# Altium footprint library TPS25990ARQPR.PcbLib: 1 footprints
Each footprint in its own frame and in the unit in brackets; x right, y up, seen from the top. Pads: shape width x height; smd on the part's side, far side on the other; paste and mask are expansions set on the pad; w line width, h text height; cw(c..) or ccw(c..) is an arc to the next point about the centre after c.
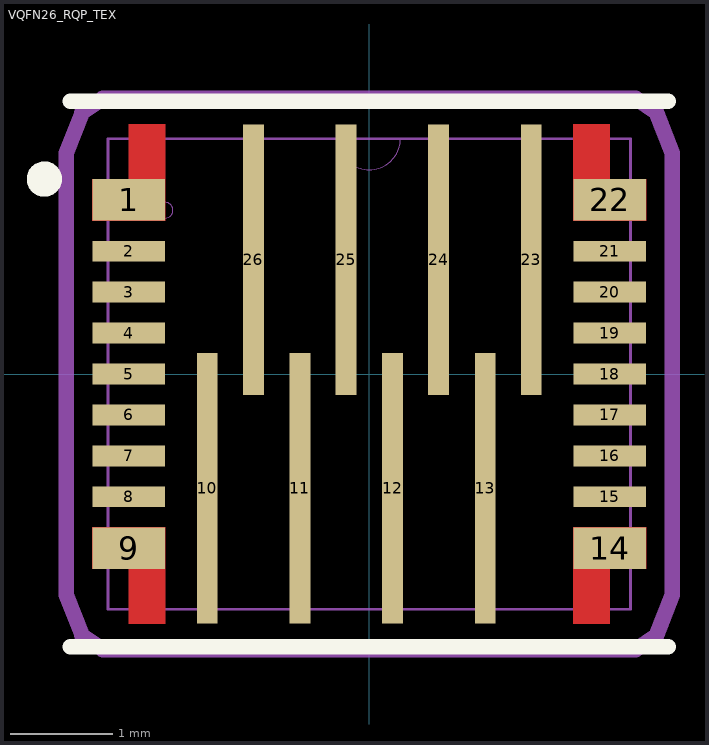
[diagram p0: the footprint, top view; thin cyan lines are the x and y axes]

## VQFN26_RQP_TEX [mil]
pads (26):
  rect 28x16 smd paste-14 mask-14: 1(-92.52,67) 9(-92.52,-67) 14(92.52,-67) 22(92.52,67)
  rect 28x8 smd paste-4 mask+0: 2(-92.52,47.25) 3(-92.52,31.5) 4(-92.52,15.75) 5(-92.52,0) 6(-92.52,-15.75) 7(-92.52,-31.5) 8(-92.52,-47.25) 15(92.52,-47.25) 16(92.52,-31.5) 17(92.52,-15.75) 18(92.52,0) 19(92.52,15.75) 20(92.52,31.5) 21(92.52,47.25)
  rect 8x104 smd paste-4 mask+0: 10(-62.3,-44) 11(-26.67,-44) 12(8.96,-44) 13(44.59,-44) 23(62.3,44) 24(26.67,44) 25(-8.96,44) 26(-44.59,44)
Top Layer:
  region: 0,52
  region: 0,-52
  region: -92.52,75 -106.52,75 -106.52,59 -78.52,59 -78.52,96 -92.52,96
  region: 92.52,75 106.52,75 106.52,59 78.52,59 78.52,96 92.52,96
  region: 92.52,-75 106.52,-75 106.52,-59 78.52,-59 78.52,-96 92.52,-96
  region: -92.52,-75 -106.52,-75 -106.52,-59 -78.52,-59 -78.52,-96 -92.52,-96
Top Overlay:
  circle w7: c-125,75 r3.28
  lines w6: -115,-105 115,-105 ; -115,105 115,105
Top Paste:
  region: 0,48.06 0,3.94
  region: 0,-3.94 0,-48.06
  region: -92.52,75 -106.52,75 -106.52,59 -78.52,59 -78.52,96 -92.52,96
Top Solder:
  region: 0,52
  region: 0,-52
  region: -92.52,75 -106.52,75 -106.52,59 -78.52,59 -78.52,96 -92.52,96
Mechanical 13:
  circle w0: c-78.52,63 r3
  lines w0: -12,90.5 ccw(c0,90.5) 12,90.5
  lines w1: -100.5,-90.5 100.5,-90.5 100.5,90.5 -100.5,90.5 -100.5,-90.5
Mechanical 15:
  lines w6: -116.52,-85 -116.52,85 -110.5,100.5 -102.52,106 102.52,106 110.5,100.5 116.52,85 116.52,-85 110.5,-100.5 102.52,-106 -102.52,-106 -110.5,-100.5 -116.52,-85
3D body "RQP0026A.stp": height 39.37, standoff 0, extent -98.43,-88.58 98.43,88.58